# Altium footprint library PD_Decoy.PcbLib: 1 footprints
Each footprint in its own frame and in the unit in brackets; x right, y up, seen from the top. Pads: shape width x height; smd on the part's side, far side on the other; paste and mask are expansions set on the pad; w line width, h text height; cw(c..) or ccw(c..) is an arc to the next point about the centre after c.
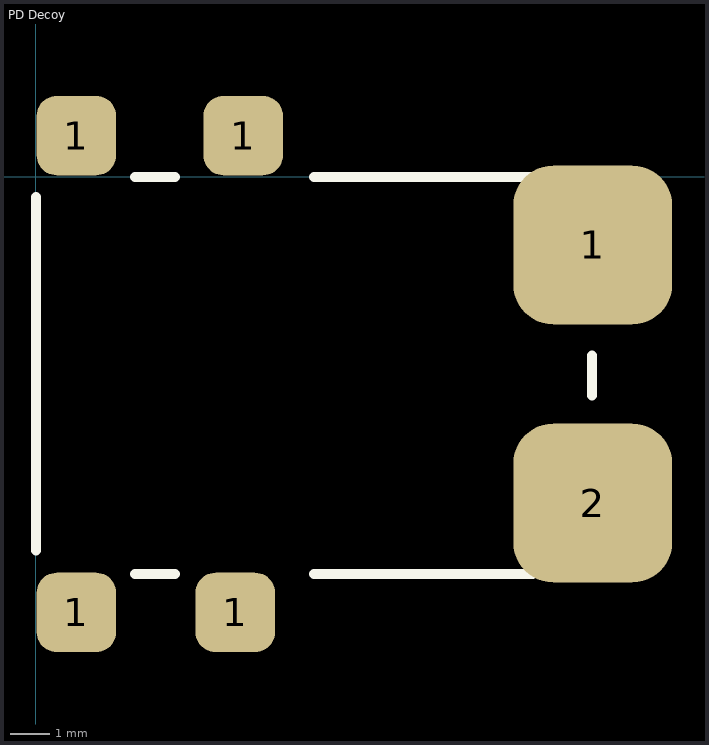
[diagram p0: the footprint, top view; thin cyan lines are the x and y axes]

## PD Decoy [mm] "Pin1: GND / Pin2: VOUT"
pads (6):
  rrect50% 2x2 smd: 1(1.021,-10.96) 1(1.021,1.04) 1(5.021,-10.96) 1(5.221,1.04)
  rrect50% 4x4 smd: 1(14.021,-1.71) 2(14.021,-8.21)
Top Overlay:
  lines w0.254: 0,-9.398 0,-0.508 ; 2.5,-10 3.5,-10 ; 2.5,0 3.5,0 ; 7,-10 12.5,-10 ; 7,0 12.5,0 ; 14,-5.5 14,-4.5